# EAGLE library part GS1011 (library geoffculp)
GainSpan GS1011M Low-Power Wireless SOC Wi-Fi Module
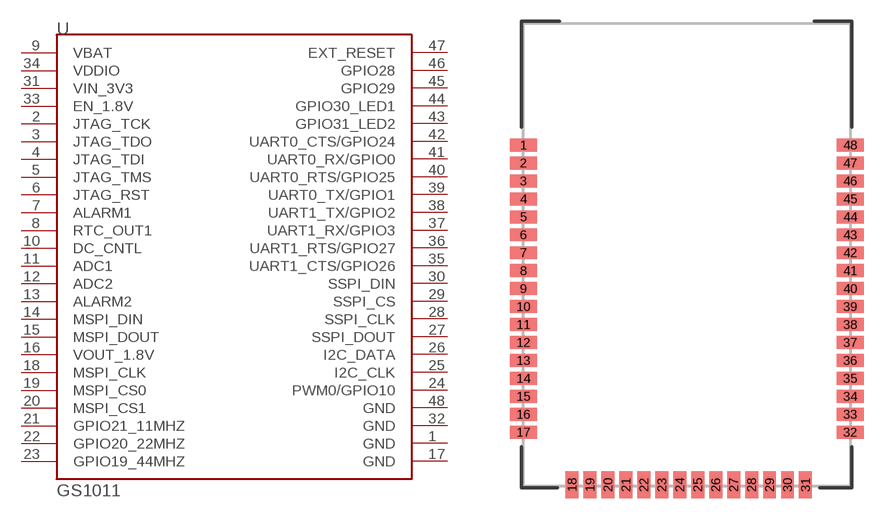
[diagram p356: symbol with the pads of GS1011MXX; footprint GS1011MXX]

Designator prefix U

## GS1011GS1011MXX  [GS1011MXX]
1  GND
2  JTAG_TCK
3  JTAG_TDO
4  JTAG_TDI
5  JTAG_TMS
6  JTAG_RST
7  ALARM1
8  RTC_OUT1
9  VBAT
10  DC_CNTL
11  ADC1
12  ADC2
13  ALARM2
14  MSPI_DIN
15  MSPI_DOUT
16  VOUT_1.8V
17  GND
18  MSPI_CLK
19  MSPI_CS0
20  MSPI_CS1
21  GPIO21_11MHZ
22  GPIO20_22MHZ
23  GPIO19_44MHZ
24  PWM0/GPIO10
25  I2C_CLK
26  I2C_DATA
27  SSPI_DOUT
28  SSPI_CLK
29  SSPI_CS
30  SSPI_DIN
31  VIN_3V3
32  GND
33  EN_1.8V
34  VDDIO
35  UART1_CTS/GPIO26
36  UART1_RTS/GPIO27
37  UART1_RX/GPIO3
38  UART1_TX/GPIO2
39  UART0_TX/GPIO1
40  UART0_RTS/GPIO25
41  UART0_RX/GPIO0
42  UART0_CTS/GPIO24
43  GPIO31_LED2
44  GPIO30_LED1
45  GPIO29
46  GPIO28
47  EXT_RESET
48  GND

## Footprint GS1011MXX (pad centres in mm)
SMD GS1011Mxx
smd 1.905 x 0.914: 1 0,24.13; 2 0,22.86; 3 0,21.59; 4 0,20.32; 5 0,19.05; 6 0,17.78; 7 0,16.51; 8 0,15.24; 9 0,13.97; 10 0,12.7; 11 0,11.43; 12 0,10.16; 13 0,8.89; 14 0,7.62; 15 0,6.35; 16 0,5.08; 17 0,3.81; 32 23.114,3.81; 33 23.114,5.08; 34 23.114,6.35; 35 23.114,7.62; 36 23.114,8.89; 37 23.114,10.16; 38 23.114,11.43; 39 23.114,12.7; 40 23.114,13.97; 41 23.114,15.24; 42 23.114,16.51; 43 23.114,17.78; 44 23.114,19.05; 45 23.114,20.32; 46 23.114,21.59; 47 23.114,22.86; 48 23.114,24.13
smd 0.914 x 1.905: 18 3.442,0.089; 19 4.712,0.089; 20 5.982,0.089; 21 7.252,0.089; 22 8.522,0.089; 23 9.792,0.089; 24 11.062,0.089; 25 12.332,0.089; 26 13.602,0.089; 27 14.872,0.089; 28 16.142,0.089; 29 17.412,0.089; 30 18.682,0.089; 31 19.952,0.089